# Altium schematic symbol library Joystick2.SchLib: 1 symbol
Pins are listed as number, name and electrical type; pins without a type are passive.

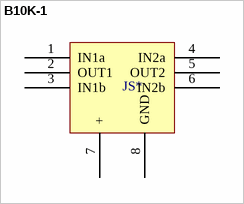
[diagram p0: symbol B10K-1]

## B10K-1
designator JS*, comment Joystick  (value not drawn)
footprint B10K-1
pins: 1 IN1a, 2 OUT1, 3 IN1b, 4 IN2a, 5 OUT2, 6 IN2b, 7 +, 8 GND